# Altium schematic symbol library ISO6721B.SchLib: 1 symbol
Pins are listed as number, name and electrical type; pins without a type are passive.

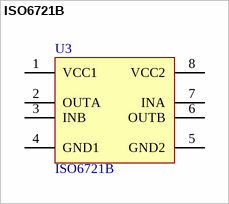
[diagram p0: symbol ISO6721B]

## ISO6721B
designator U3
Supplier 1: Mouser; Supplier Part Number 1: 595-ISO6721BDR
footprint ISO6721B (ISO6721B SOIC)
pins: 1 VCC1, 2 OUTA, 3 INB, 4 GND1, 5 GND2, 6 OUTB, 7 INA, 8 VCC2